# Altium footprint library Header-2x12-F_2mm_BottomEntry.PcbLib: 1 footprints
Each footprint in its own frame and in the unit in brackets; x right, y up, seen from the top. Pads: shape width x height; smd on the part's side, far side on the other; paste and mask are expansions set on the pad; w line width, h text height; cw(c..) or ccw(c..) is an arc to the next point about the centre after c.
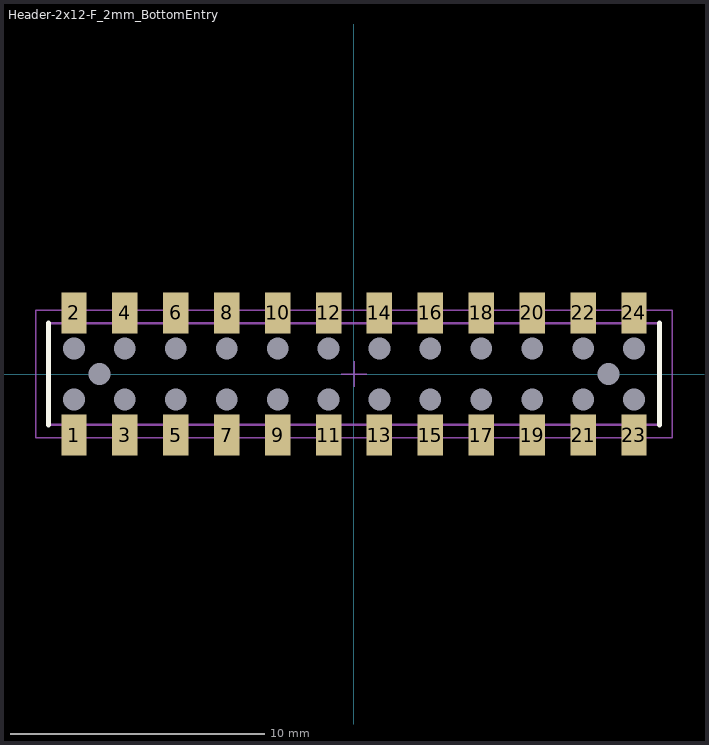
[diagram p0: the footprint, top view; thin cyan lines are the x and y axes]

## Header-2x12-F_2mm_BottomEntry [mm]
height 2.4
pads (50):
  rect 1x1.6 smd: 1(-11,-2.4) 2(-11,2.4) 3(-9,-2.4) 4(-9,2.4) 5(-7,-2.4) 6(-7,2.4) 7(-5,-2.4) 8(-5,2.4) 9(-3,-2.4) 10(-3,2.4) 11(-1,-2.4) 12(-1,2.4) 13(1,-2.4) 14(1,2.4) 15(3,-2.4) 16(3,2.4) 17(5,-2.4) 18(5,2.4) 19(7,-2.4) 20(7,2.4) 21(9,-2.4) 22(9,2.4) 23(11,-2.4) 24(11,2.4)
  round 0.8 hole 0.85 unplated: ""(-11,-1) ""(-11,1) ""(-10,0) ""(-9,-1) ""(-9,1) ""(-7,-1) ""(-7,1) ""(-5,-1) ""(-5,1) ""(-3,-1) ""(-3,1) ""(-1,-1) ""(-1,1) ""(1,-1) ""(1,1) ""(3,-1) ""(3,1) ""(5,-1) ""(5,1) ""(7,-1) ""(7,1) ""(9,-1) ""(9,1) ""(10,0) ""(11,-1) ""(11,1)
Top Overlay:
  lines w0.2: -12,-1.999 -12,2 ; 12,-2 12,2
Bottom Overlay:
  lines w0.2: -12,2 12,2 ; -11.999,1.999 -11.999,-1.999 11.999,-1.999 11.999,1.999
Mechanical 13:
  lines w0.05: -12.5,-2.5 -12.5,2.5 12.5,2.5 12.5,-2.5 -12.5,-2.5
  lines w0.1: -12,-2 12,-2 12,2 -12,2 -12,-2
Mechanical 15:
  lines w0.05: -0.5,0 0.5,0 ; 0,-0.5 0,0.5
3D body: height 2.4, standoff 0, extent -11.999,-1.999 12,1.999